# Altium footprint library 418127160904.PcbLib: 1 footprints
Each footprint in its own frame and in the unit in brackets; x right, y up, seen from the top. Pads: shape width x height; smd on the part's side, far side on the other; paste and mask are expansions set on the pad; w line width, h text height; cw(c..) or ccw(c..) is an arc to the next point about the centre after c.
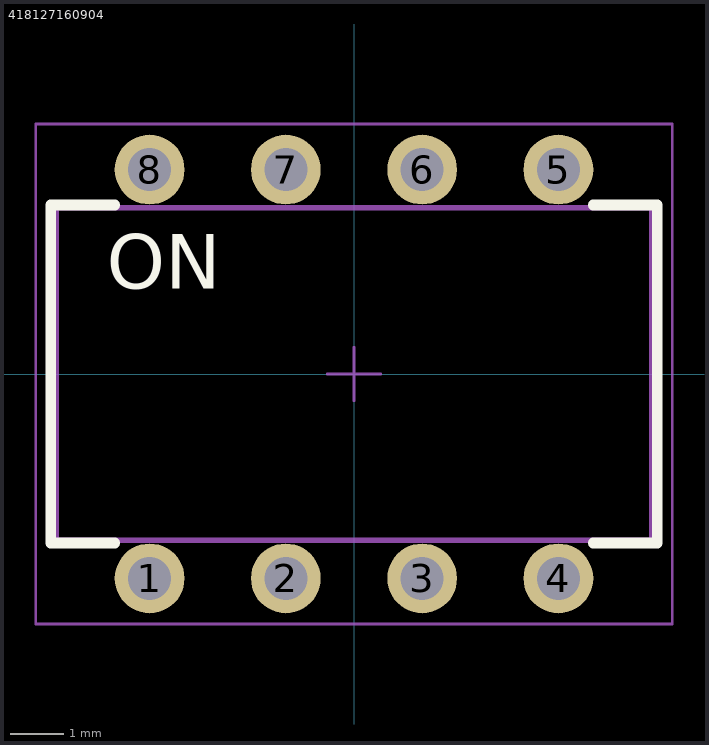
[diagram p0: the footprint, top view; thin cyan lines are the x and y axes]

## 418127160904 [mm] "2.54 mm small compact THT flat actuator with top tape, 4p"
height 3
pads (8):
  round 1.3 hole 0.8: 1(-3.81,-3.81) 2(-1.27,-3.81) 3(1.27,-3.81) 4(3.81,-3.81) 5(3.81,3.81) 6(1.27,3.81) 7(-1.27,3.81) 8(-3.81,3.81)
Top Overlay:
  lines w0.2: -4.46,-3.15 -5.65,-3.15 -5.65,3.15 -4.46,3.15 ; 4.46,-3.15 5.65,-3.15 5.65,3.15 4.46,3.15
  text "ON" at -4.61,1.59 h1.02
Top Designator:
  text ".Designator" at -7.498,-0.5 h1.5
Top Component Outline:
  lines w0.1: -5.55,-3.1 5.55,-3.1 5.55,3.1 -5.55,3.1 -5.55,-3.1
  text "2" at -1.61,-2.67 h1.02
  text "ON" at -4.61,1.59 h1.02
  text "1" at -3.91,-2.67 h1.02
  text "3" at 0.93,-2.67 h1.02
  text "4" at 3.47,-2.67 h1.02
Top Courtyard:
  lines w0.05: -0.5,0 0.5,0 ; 0,-0.5 0,0.5 ; -5.93,-4.66 5.93,-4.66 5.93,4.66 -5.93,4.66 -5.93,-4.66
3D body "418127160904.stp": height 3.59, standoff -3.45, extent -5.55,-3.985 5.55,3.885